# EAGLE library part BCR420UW6-7 (library BCR420UW6-7)
LED Lighting Drivers 10mA LED Curr Reg 350mA 40V 10kHz Source: Datasheet <https://www.mouser.fr/datasheet/2/115/BCR420UW6_BCR421UW7-1511721.pdf>
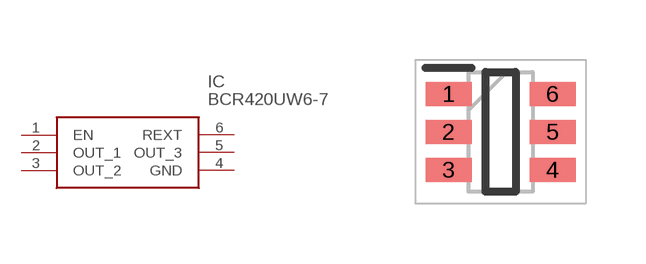
[diagram p0: symbol with the pads of SOT95P285X140-6N; footprint SOT95P285X140-6N]

Designator prefix IC

## BCR420UW6-7 (Description: LED Lighting Drivers 10mA LED Curr Reg 350mA 40V 10kHz; Height: 1.4mm; Manufacturer_Name: Diodes Incorporated; Manufacturer_Part_Number: BCR420UW6-7; Mouser_Part_Number: 621-BCR420UW6-7; Mouser_Price-Stock: https://www.mouser.co.uk/ProductDetail/Diodes-Incorporated/BCR420UW6-7?qs=pyrzFRyRzn6yrtUh9GiIPg%3D%3D)  [SOT95P285X140-6N]
1  EN
2  OUT_1
3  OUT_2
4  GND
5  OUT_3
6  REXT

## Footprint SOT95P285X140-6N (pad centres in mm)
SOT26-5
smd 1.15 x 0.6: 1 -1.3,0.95; 2 -1.3,0; 3 -1.3,-0.95; 4 1.3,-0.95; 5 1.3,0; 6 1.3,0.95